# Altium integrated library ON Semi Signal Management Video Switches.IntLib: 4 symbols
Pins are listed as number, name and electrical type; pins without a type are passive.

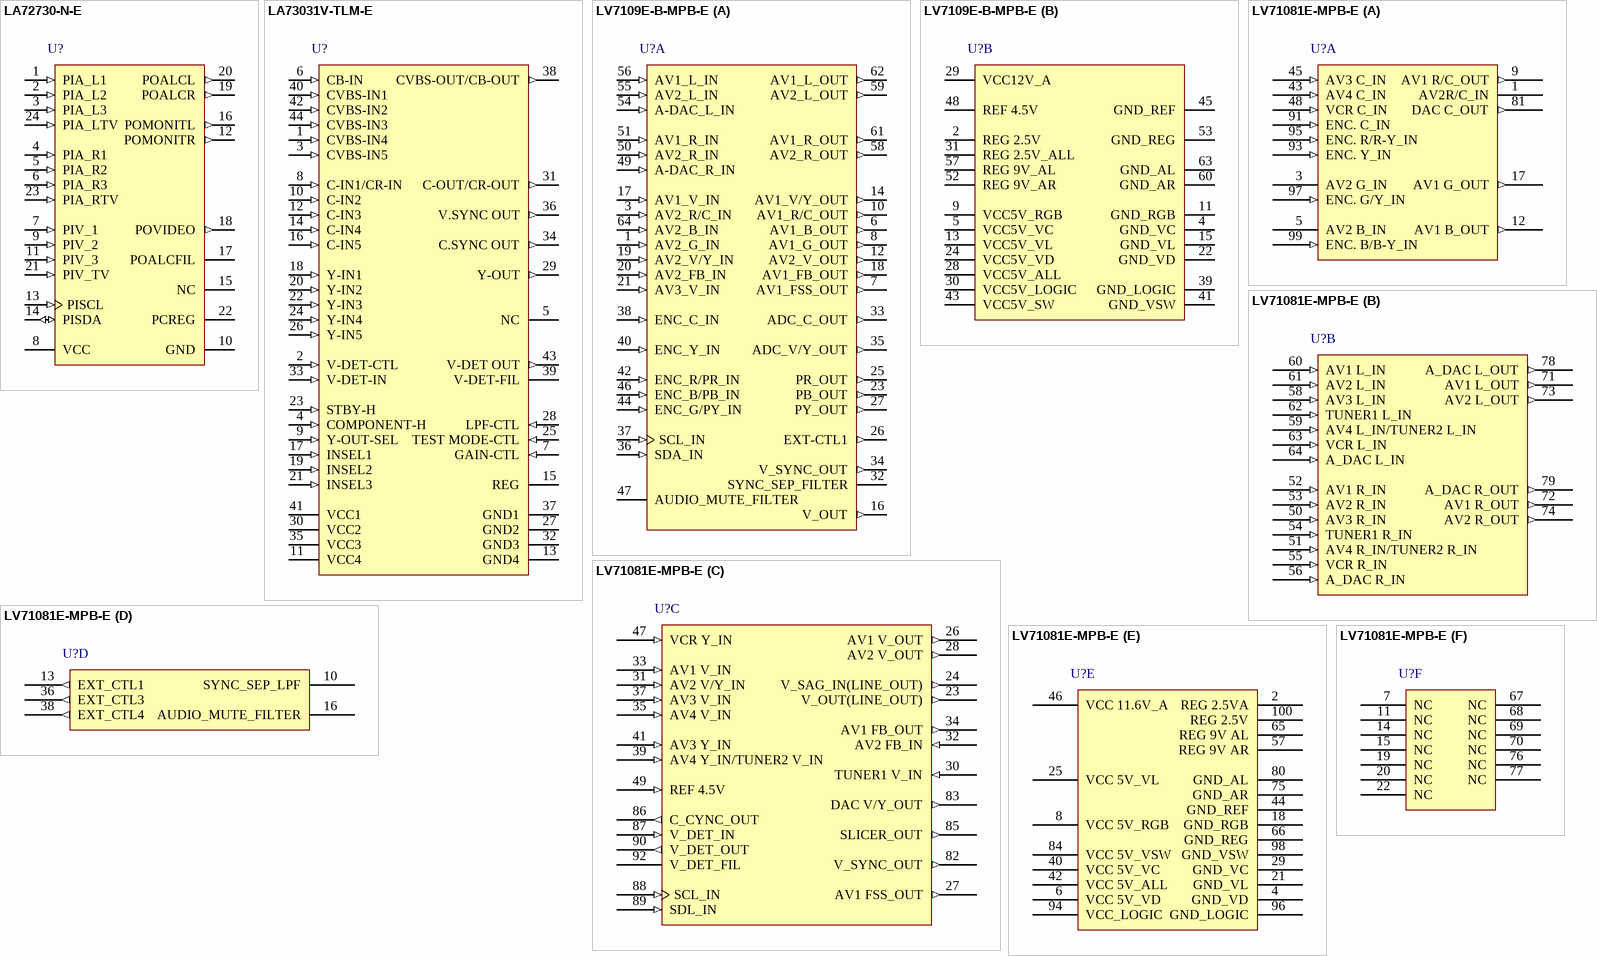
[diagram p0: symbols LA72730-N-E to LV71081E-MPB-E]

## LA72730-N-E
designator U?
Audio / Video Switch for TV, 4.5 to 5.5 V, -20 to 70 degC, 24-Pin DIP, Pb-Free, Fan-Fold; Manufacturer: On Semiconductor; PartNumber: LA72730-N-E; Number of Inputs: 4; VCC Max (V): 5.5; VCC Min (V): 4.5; DatasheetVersion: Rev. 0; PackageReference: DIP-24; PackageDescription: 24-Pin Dual-In Line Package, Body 21 x 6.4 mm, Pitch 1.78 mm; Supplier 1: Digi-Key; Supplier Part Number 1: LA72730-N-E-ND; Supplier 2: Newark; Supplier Part Number 2: 52T7916; Supplier 3: Mouser; Supplier Part Number 3: 863-LA72730-N-E; Packing: Fan-Fold; RoHS: TRUE; Mounting Technology: Through Hole; ComponentLink1Description: Manufacturer URL; ComponentLink1URL: http://www.onsemi.com/; ComponentLink2Description: Datasheet; ComponentLink2URL: http://www.onsemi.com/pub_link/Collateral/LA72730-D.PDF; ComponentLink3Description: Package Specification; ComponentLink3URL: http://www.onsemi.com/pub_link/Collateral/LA72730-D.PDF
footprint ONSC-DIP-24-72730 (DIP, 24-Leads, Body 21x6.4mm, Pitch 1.78mm)
pins: 1 PIA_L1 (in) "Audio input", 2 PIA_L2 (in) "Audio input", 3 PIA_L3 (in) "Audio input", 4 PIA_R1 (in) "Audio input", 5 PIA_R2 (in) "Audio input", 6 PIA_R3 (in) "Audio input", 7 PIV_1 (in) "Video input", 8 VCC (power), 9 PIV_2 (in) "Video input", 10 GND (power), 11 PIV_3 (in) "Video input", 12 POMONITR (out) "Monitor output", 13 PISCL (in) "Serial clock input", 14 PISDA (io) "Serial data input", 15 NC, 16 POMONITL (out) "Monitor output", 17 POALCFIL "ALC detect filter", 18 POVIDEO (out) "Video output", 19 POALCR (out) "Audio output", 20 POALCL (out) "Audio output", 21 PIV_TV (in) "Video input", 22 PCREG "Reference voltage", 23 PIA_RTV (in) "Audio input", 24 PIA_LTV (in) "Audio input"

## LA73031V-TLM-E
designator U?
Video Signal Input Switch for DVD Recorder, 4.75 to 5.25 V, -20 to 75 degC, 44-Pin SSOP, Pb-Free, Tape and Reel; Manufacturer: On Semiconductor; PartNumber: LA73031V-TLM-E; Number of Inputs: 6; VCC Max (V): 5.25; VCC Min (V): 4.75; DatasheetVersion: Rev. 0; PackageReference: SSOP-44; PackageDescription: 44-Pin Small Outline Package, Body 15 x 5.6 mm, Pitch 0.65 mm; Supplier 1: Mouser; Supplier Part Number 1: 863-LA73031V-TLM-E; Packing: Tape and Reel; RoHS: TRUE; Mounting Technology: Surface Mount; ComponentLink1Description: Manufacturer URL; ComponentLink1URL: http://www.onsemi.com/; ComponentLink2Description: Datasheet; ComponentLink2URL: http://www.onsemi.com/pub_link/Collateral/LA73031V-D.PDF; ComponentLink3Description: Package Specification; ComponentLink3URL: http://www.onsemi.com/pub_link/Collateral/LA73031V-D.PDF
footprint ONSC-SSOP-44_N (SOP, 44-Leads, Body 15x5.6mm, Pitch 0.65mm, IPC Medium Density)
footprint ONSC-SSOP-44_L (SOP, 44-Leads, Body 15x5.6mm, Pitch 0.65mm, IPC High Density)
footprint ONSC-SSOP-44_M (SOP, 44-Leads, Body 15x5.6mm, Pitch 0.65mm, IPC Low Density)
pins: 1 CVBS-IN4 (in), 2 V-DET-CTL (in), 3 CVBS-IN5 (in), 4 COMPONENT-H (in), 5 NC, 6 CB-IN (in), 7 GAIN-CTL (in), 8 C-IN1/CR-IN (in), 9 Y-OUT-SEL (in), 10 C-IN2 (in), 11 VCC4 (power), 12 C-IN3 (in), 13 GND4 (power), 14 C-IN4 (in), 15 REG (power), 16 C-IN5 (in), 17 INSEL1 (in), 18 Y-IN1 (in), 19 INSEL2 (in), 20 Y-IN2 (in), 21 INSEL3 (in), 22 Y-IN3 (in), 23 STBY-H (in), 24 Y-IN4 (in), 25 TEST MODE-CTL (in), 26 Y-IN5 (in), 27 GND2 (power), 28 LPF-CTL (in), 29 Y-OUT (out), 30 VCC2 (power), 31 C-OUT/CR-OUT (out), 32 GND3 (power), 33 V-DET-IN (in), 34 C.SYNC OUT (out), 35 VCC3 (power), 36 V.SYNC OUT (out), 37 GND1 (power), 38 CVBS-OUT/CB-OUT (out), 39 V-DET-FIL, 40 CVBS-IN1 (in), 41 VCC1 (power), 42 CVBS-IN2 (in), 43 V-DET OUT (out), 44 CVBS-IN3 (in)

## LV7109E-B-MPB-E
designator U?
AC Switch, Europe SCART Standard, -20 to 75 degC, 64-Pin QIP64E, Pb-Free, Tray; Manufacturer: On Semiconductor; PartNumber: LV7109E-B-MPB-E; Number of Inputs: 3; DatasheetVersion: Rev. 0; PackageReference: QIP64E-64; PackageDescription: 64-Pin Quad Flat Package, Body 14 x 14 mm, Pitch 0.8 mm; Supplier 1: Mouser; Supplier Part Number 1: 863-LV7109E-B-MPB-E; Packing: Tray; RoHS: TRUE; Mounting Technology: Surface Mount; ComponentLink1Description: Manufacturer URL; ComponentLink1URL: http://www.onsemi.com/; ComponentLink2Description: Datasheet; ComponentLink2URL: http://www.onsemi.com/pub_link/Collateral/ENA1992-D.PDF; ComponentLink3Description: Package Specification; ComponentLink3URL: http://www.onsemi.com/pub_link/Collateral/ENA1992-D.PDF
footprint ONSC-QIP64E-64_N (QFP, 64-Leads, Body 14x14mm, Pitch 0.8mm, IPC Medium Density)
footprint ONSC-QIP64E-64_L (QFP, 64-Leads, Body 14x14mm, Pitch 0.8mm, IPC High Density)
footprint ONSC-QIP64E-64_M (QFP, 64-Leads, Body 14x14mm, Pitch 0.8mm, IPC Low Density)
part A pins: 1 AV2_G_IN (in), 3 AV2_R/C_IN (in), 6 AV1_B_OUT (out), 7 AV1_FSS_OUT (out), 8 AV1_G_OUT (out), 10 AV1_R/C_OUT (out), 12 AV2_V_OUT (out), 14 AV1_V/Y_OUT (out), 16 V_OUT (out), 17 AV1_V_IN (in), 18 AV1_FB_OUT (out), 19 AV2_V/Y_IN (in), 20 AV2_FB_IN (in), 21 AV3_V_IN (in), 23 PB_OUT (out), 25 PR_OUT (out), 26 EXT-CTL1 (out), 27 PY_OUT (out), 32 SYNC_SEP_FILTER, 33 ADC_C_OUT (out), 34 V_SYNC_OUT (out), 35 ADC_V/Y_OUT (out), 36 SDA_IN (in), 37 SCL_IN (in), 38 ENC_C_IN (in), 40 ENC_Y_IN (in), 42 ENC_R/PR_IN (in), 44 ENC_G/PY_IN (in), 46 ENC_B/PB_IN (in), 47 AUDIO_MUTE_FILTER, 49 A-DAC_R_IN (in), 50 AV2_R_IN (in), 51 AV1_R_IN (in), 54 A-DAC_L_IN (in), 55 AV2_L_IN (in), 56 AV1_L_IN (in), 58 AV2_R_OUT (out), 59 AV2_L_OUT (out), 61 AV1_R_OUT (out), 62 AV1_L_OUT (out), 64 AV2_B_IN (in)
part B pins: 2 REG 2.5V (power), 4 GND_VC (power), 5 VCC5V_VC (power), 9 VCC5V_RGB (power), 11 GND_RGB (power), 13 VCC5V_VL (power), 15 GND_VL (power), 22 GND_VD (power), 24 VCC5V_VD (power), 28 VCC5V_ALL (power), 29 VCC12V_A (power), 30 VCC5V_LOGIC (power), 31 REG 2.5V_ALL (power), 39 GND_LOGIC (power), 41 GND_VSW (power), 43 VCC5V_SW (power), 45 GND_REF (power), 48 REF 4.5V, 52 REG 9V_AR (power), 53 GND_REG (power), 57 REG 9V_AL (power), 60 GND_AR (power), 63 GND_AL (power)

## LV71081E-MPB-E
designator U?
Video / Audio Signal IO Interface of DVD Recorder, -20 to 75 degC, 100-Pin QIP100EK, Pb-Free, Tray; Manufacturer: On Semiconductor; PartNumber: LV71081E-MPB-E; Number of Inputs: 3; DatasheetVersion: Rev. 0; PackageVersion: Rev. A, 11/2013; PackageReference: QIP100EK-100-122CD; PackageDescription: 100-Pin Quad Flat Package, Body 20 x 14 mm, Pitch 0.65 mm; Supplier 1: Mouser; Supplier Part Number 1: 863-LV71081E-MPB-E; Packing: Tray; RoHS: TRUE; Mounting Technology: Surface Mount; ComponentLink1Description: Manufacturer URL; ComponentLink1URL: http://www.onsemi.com/; ComponentLink2Description: Datasheet; ComponentLink2URL: http://www.onsemi.com/pub_link/Collateral/ENA1610-D.PDF; ComponentLink3Description: Package Specification; ComponentLink3URL: http://www.onsemi.com/pub_link/Collateral/122CD.PDF
footprint ONSC-QIP100EK-100-122CD_N (QFP, 100-Leads, Body 20x14mm, Pitch 0.65mm, IPC Medium Density)
footprint ONSC-QIP100EK-100-122CD_L (QFP, 100-Leads, Body 20x14mm, Pitch 0.65mm, IPC High Density)
footprint ONSC-QIP100EK-100-122CD_M (QFP, 100-Leads, Body 20x14mm, Pitch 0.65mm, IPC Low Density)
part A pins: 1 AV2R/C_IN (power), 3 AV2 G_IN (power), 5 AV2 B_IN (power), 9 AV1 R/C_OUT (out), 12 AV1 B_OUT (out), 17 AV1 G_OUT (out), 43 AV4 C_IN (in), 45 AV3 C_IN (in), 48 VCR C_IN (in), 81 DAC C_OUT (out), 91 ENC. C_IN (in), 93 ENC. Y_IN (in), 95 ENC. R/R-Y_IN (in), 97 ENC. G/Y_IN (in), 99 ENC. B/B-Y_IN (in)
part B pins: 50 AV3 R_IN (in), 51 AV4 R_IN/TUNER2 R_IN (in), 52 AV1 R_IN (in), 53 AV2 R_IN (in), 54 TUNER1 R_IN (in), 55 VCR R_IN (in), 56 A_DAC R_IN (in), 58 AV3 L_IN (in), 59 AV4 L_IN/TUNER2 L_IN (in), 60 AV1 L_IN (in), 61 AV2 L_IN (in), 62 TUNER1 L_IN (in), 63 VCR L_IN (in), 64 A_DAC L_IN (in), 71 AV1 L_OUT (out), 72 AV1 R_OUT (out), 73 AV2 L_OUT (out), 74 AV2 R_OUT (out), 78 A_DAC L_OUT (out), 79 A_DAC R_OUT (out)
part C pins: 23 V_OUT(LINE_OUT) (out), 24 V_SAG_IN(LINE_OUT) (out), 26 AV1 V_OUT (out), 27 AV1 FSS_OUT (out), 28 AV2 V_OUT (out), 30 TUNER1 V_IN (in), 31 AV2 V/Y_IN (in), 32 AV2 FB_IN (in), 33 AV1 V_IN (in), 34 AV1 FB_OUT (out), 35 AV4 V_IN (in), 37 AV3 V_IN (in), 39 AV4 Y_IN/TUNER2 V_IN (in), 41 AV3 Y_IN (in), 47 VCR Y_IN (in), 49 REF 4.5V (in), 82 V_SYNC_OUT (out), 83 DAC V/Y_OUT (out), 85 SLICER_OUT (out), 86 C_CYNC_OUT (out), 87 V_DET_IN (in), 88 SCL_IN (in), 89 SDL_IN (in), 90 V_DET_OUT (out), 92 V_DET_FIL
part D pins: 10 SYNC_SEP_LPF, 13 EXT_CTL1 (out), 16 AUDIO_MUTE_FILTER, 36 EXT_CTL3 (out), 38 EXT_CTL4 (out)
part E pins: 2 REG 2.5VA (power), 4 GND_VD (power), 6 VCC 5V_VD (power), 8 VCC 5V_RGB (power), 18 GND_RGB (power), 21 GND_VL (power), 25 VCC 5V_VL (power), 29 GND_VC (power), 40 VCC 5V_VC (power), 42 VCC 5V_ALL (power), 44 GND_REF (power), 46 VCC 11.6V_A (power), 57 REG 9V AR, 65 REG 9V AL, 66 GND_REG (power), 75 GND_AR (power), 80 GND_AL (power), 84 VCC 5V_VSW (power), 94 VCC_LOGIC (power), 96 GND_LOGIC (power), 98 GND_VSW (power), 100 REG 2.5V (power)
part F pins: 7 NC, 11 NC, 14 NC, 15 NC, 19 NC, 20 NC, 22 NC, 67 NC, 68 NC, 69 NC, 70 NC, 76 NC, 77 NC